# Altium schematic symbol library kmilo17pet-LT_OpAmp_LT2000.SchLib: 1710 symbols (part 23 of 75)
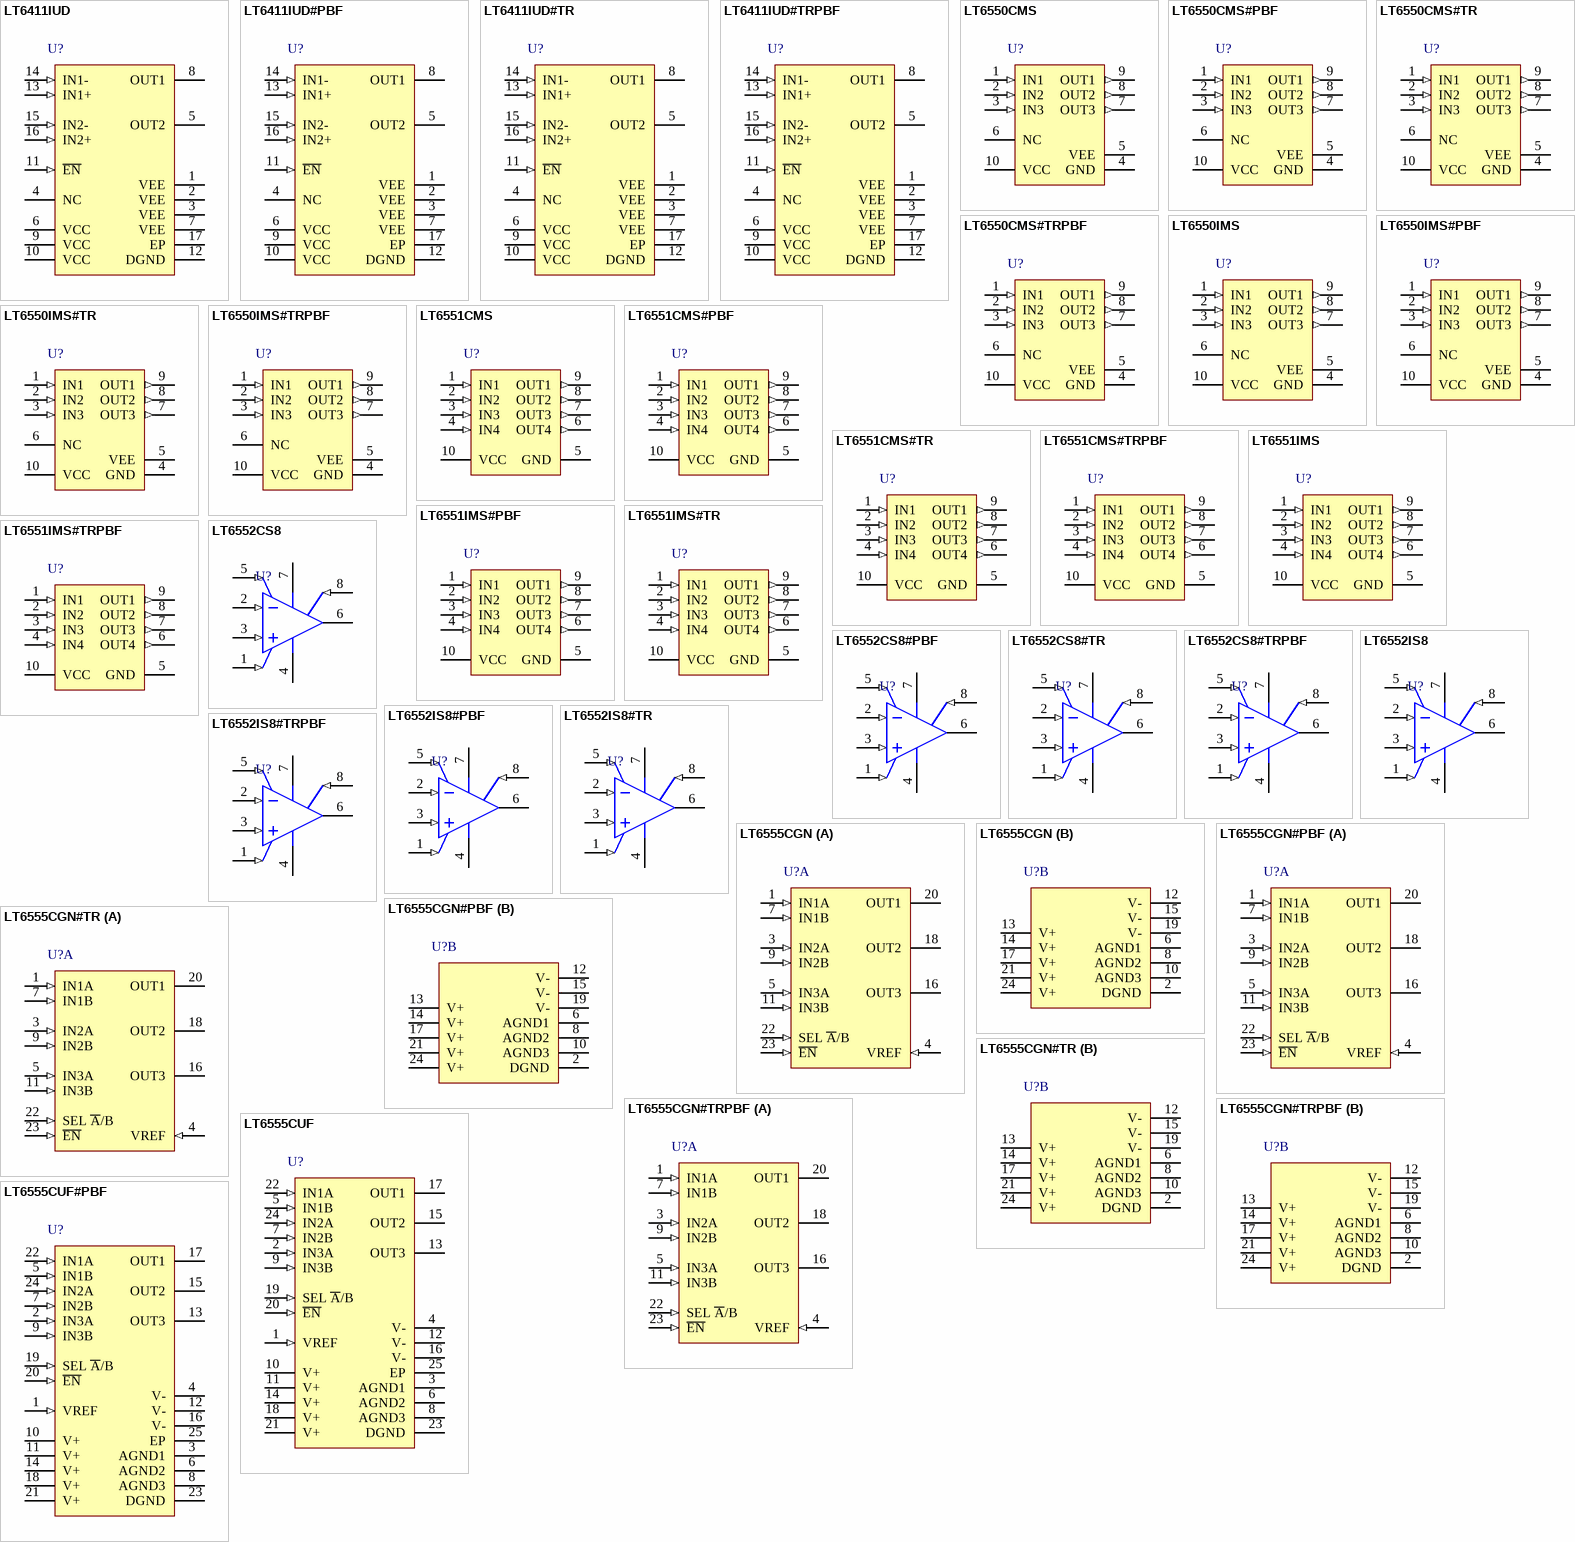
[diagram p102: symbols LT6411IUD to LT6555CUF#PBF]

## LT6551CMS#PBF
designator U?
Quad Channel, 3V RGB + Sync Driver with Av = 2, 110 MHz Typical GBW, 340 V/us Typical SR, 3 to 12.6 V, 10-Pin SOP (MS-10), Commercial, Pb-Free; Linear Technology Part Number: LT6551; Manufacturer: Linear Technology; PartNumber: LT6551CMS#PBF; Channels (#): 4; GBW (MHz) Typical: 110; Is (mA) Typical: 9.5; SR (V/us) Typical: 340; Vos (mV) Guaranteed: 35; Vos (mV) Typical: 15; Vs Max (V): 12.6; Vs Min (V): 3; DatasheetVersion: Rev. A; PackageVersion: Rev E; PackageReference: LT-MS-10; PackageDescription: 10-Lead Plastic MSOP, Body 3 x 3 mm, Pitch 0.5 mm; Supplier 1: Digi-Key; Supplier Part Number 1: LT6551CMS#PBF-ND; Supplier 2: Newark; Supplier Part Number 2: 57M9448; RoHS: Pb-Free; Type: VIDEO; Mounting Technology: Surface Mount; ComponentLink1Description: Manufacturer URL; ComponentLink1URL: http://www.linear.com/; ComponentLink2Description: Datasheet; ComponentLink2URL: http://cds.linear.com/docs/en/datasheet/65501fa.pdf; ComponentLink3Description: Package Specification; ComponentLink3URL: http://cds.linear.com/docs/en/packaging/MSOP_10_05-08-1661.pdf
footprint LT-MS-10_N (SOP, 10-Leads, Body 3x3mm, Pitch 0.50mm, IPC Medium Density)
footprint LT-MS-10_L (SOP, 10-Leads, Body 3x3mm, Pitch 0.50mm, IPC High Density)
footprint LT-MS-10_M (SOP, 10-Leads, Body 3x3mm, Pitch 0.50mm, IPC Low Density)
pins: 1 IN1 (in), 2 IN2 (in), 3 IN3 (in), 4 IN4 (in), 5 GND (power), 6 OUT4 (out), 7 OUT3 (out), 8 OUT2 (out), 9 OUT1 (out), 10 VCC (power)

## LT6551CMS#TR
designator U?
Quad Channel, 3V RGB + Sync Driver with Av = 2, 110 MHz Typical GBW, 340 V/us Typical SR, 3 to 12.6 V, 10-Pin SOP (MS-10), Commercial, Reel; Linear Technology Part Number: LT6551; Manufacturer: Linear Technology; PartNumber: LT6551CMS#TR; Channels (#): 4; GBW (MHz) Typical: 110; Is (mA) Typical: 9.5; SR (V/us) Typical: 340; Vos (mV) Guaranteed: 35; Vos (mV) Typical: 15; Vs Max (V): 12.6; Vs Min (V): 3; DatasheetVersion: Rev. A; PackageVersion: Rev E; PackageReference: LT-MS-10; PackageDescription: 10-Lead Plastic MSOP, Body 3 x 3 mm, Pitch 0.5 mm; Supplier 1: Digi-Key; Supplier Part Number 1: LT6551CMS#TR-ND; Packing: Reel; Type: VIDEO; Mounting Technology: Surface Mount; ComponentLink1Description: Manufacturer URL; ComponentLink1URL: http://www.linear.com/; ComponentLink2Description: Datasheet; ComponentLink2URL: http://cds.linear.com/docs/en/datasheet/65501fa.pdf; ComponentLink3Description: Package Specification; ComponentLink3URL: http://cds.linear.com/docs/en/packaging/MSOP_10_05-08-1661.pdf
footprint LT-MS-10_N (SOP, 10-Leads, Body 3x3mm, Pitch 0.50mm, IPC Medium Density)
footprint LT-MS-10_L (SOP, 10-Leads, Body 3x3mm, Pitch 0.50mm, IPC High Density)
footprint LT-MS-10_M (SOP, 10-Leads, Body 3x3mm, Pitch 0.50mm, IPC Low Density)
pins: 1 IN1 (in), 2 IN2 (in), 3 IN3 (in), 4 IN4 (in), 5 GND (power), 6 OUT4 (out), 7 OUT3 (out), 8 OUT2 (out), 9 OUT1 (out), 10 VCC (power)

## LT6551CMS#TRPBF
designator U?
Quad Channel, 3V RGB + Sync Driver with Av = 2, 110 MHz Typical GBW, 340 V/us Typical SR, 3 to 12.6 V, 10-Pin SOP (MS-10), Commercial, Pb-Free, Reel; Linear Technology Part Number: LT6551; Manufacturer: Linear Technology; PartNumber: LT6551CMS#TRPBF; Channels (#): 4; GBW (MHz) Typical: 110; Is (mA) Typical: 9.5; SR (V/us) Typical: 340; Vos (mV) Guaranteed: 35; Vos (mV) Typical: 15; Vs Max (V): 12.6; Vs Min (V): 3; DatasheetVersion: Rev. A; PackageVersion: Rev E; PackageReference: LT-MS-10; PackageDescription: 10-Lead Plastic MSOP, Body 3 x 3 mm, Pitch 0.5 mm; Supplier 1: Digi-Key; Supplier Part Number 1: LT6551CMS#TRPBF-ND; Packing: Reel; RoHS: Pb-Free; Type: VIDEO; Mounting Technology: Surface Mount; ComponentLink1Description: Manufacturer URL; ComponentLink1URL: http://www.linear.com/; ComponentLink2Description: Datasheet; ComponentLink2URL: http://cds.linear.com/docs/en/datasheet/65501fa.pdf; ComponentLink3Description: Package Specification; ComponentLink3URL: http://cds.linear.com/docs/en/packaging/MSOP_10_05-08-1661.pdf
footprint LT-MS-10_N (SOP, 10-Leads, Body 3x3mm, Pitch 0.50mm, IPC Medium Density)
footprint LT-MS-10_L (SOP, 10-Leads, Body 3x3mm, Pitch 0.50mm, IPC High Density)
footprint LT-MS-10_M (SOP, 10-Leads, Body 3x3mm, Pitch 0.50mm, IPC Low Density)
pins: 1 IN1 (in), 2 IN2 (in), 3 IN3 (in), 4 IN4 (in), 5 GND (power), 6 OUT4 (out), 7 OUT3 (out), 8 OUT2 (out), 9 OUT1 (out), 10 VCC (power)

## LT6551IMS
designator U?
Quad Channel, 3V RGB + Sync Driver with Av = 2, 110 MHz Typical GBW, 340 V/us Typical SR, 3 to 12.6 V, 10-Pin SOP (MS-10), Industrial; Linear Technology Part Number: LT6551; Manufacturer: Linear Technology; PartNumber: LT6551IMS; Channels (#): 4; GBW (MHz) Typical: 110; Is (mA) Typical: 9.5; SR (V/us) Typical: 340; Vos (mV) Guaranteed: 35; Vos (mV) Typical: 15; Vs Max (V): 12.6; Vs Min (V): 3; DatasheetVersion: Rev. A; PackageVersion: Rev E; PackageReference: LT-MS-10; PackageDescription: 10-Lead Plastic MSOP, Body 3 x 3 mm, Pitch 0.5 mm; Supplier 1: Digi-Key; Supplier Part Number 1: LT6551IMS-ND; Type: VIDEO; Mounting Technology: Surface Mount; ComponentLink1Description: Manufacturer URL; ComponentLink1URL: http://www.linear.com/; ComponentLink2Description: Datasheet; ComponentLink2URL: http://cds.linear.com/docs/en/datasheet/65501fa.pdf; ComponentLink3Description: Package Specification; ComponentLink3URL: http://cds.linear.com/docs/en/packaging/MSOP_10_05-08-1661.pdf
footprint LT-MS-10_N (SOP, 10-Leads, Body 3x3mm, Pitch 0.50mm, IPC Medium Density)
footprint LT-MS-10_L (SOP, 10-Leads, Body 3x3mm, Pitch 0.50mm, IPC High Density)
footprint LT-MS-10_M (SOP, 10-Leads, Body 3x3mm, Pitch 0.50mm, IPC Low Density)
pins: 1 IN1 (in), 2 IN2 (in), 3 IN3 (in), 4 IN4 (in), 5 GND (power), 6 OUT4 (out), 7 OUT3 (out), 8 OUT2 (out), 9 OUT1 (out), 10 VCC (power)

## LT6551IMS#PBF
designator U?
Quad Channel, 3V RGB + Sync Driver with Av = 2, 110 MHz Typical GBW, 340 V/us Typical SR, 3 to 12.6 V, 10-Pin SOP (MS-10), Industrial, Pb-Free; Linear Technology Part Number: LT6551; Manufacturer: Linear Technology; PartNumber: LT6551IMS#PBF; Channels (#): 4; GBW (MHz) Typical: 110; Is (mA) Typical: 9.5; SR (V/us) Typical: 340; Vos (mV) Guaranteed: 35; Vos (mV) Typical: 15; Vs Max (V): 12.6; Vs Min (V): 3; DatasheetVersion: Rev. A; PackageVersion: Rev E; PackageReference: LT-MS-10; PackageDescription: 10-Lead Plastic MSOP, Body 3 x 3 mm, Pitch 0.5 mm; Supplier 1: Digi-Key; Supplier Part Number 1: LT6551IMS#PBF-ND; Supplier 2: Farnell; Supplier Part Number 2: 2294772; Supplier 3: Newark; Supplier Part Number 3: 57M9452; RoHS: Pb-Free; Type: VIDEO; Mounting Technology: Surface Mount; ComponentLink1Description: Manufacturer URL; ComponentLink1URL: http://www.linear.com/; ComponentLink2Description: Datasheet; ComponentLink2URL: http://cds.linear.com/docs/en/datasheet/65501fa.pdf; ComponentLink3Description: Package Specification; ComponentLink3URL: http://cds.linear.com/docs/en/packaging/MSOP_10_05-08-1661.pdf
footprint LT-MS-10_N (SOP, 10-Leads, Body 3x3mm, Pitch 0.50mm, IPC Medium Density)
footprint LT-MS-10_L (SOP, 10-Leads, Body 3x3mm, Pitch 0.50mm, IPC High Density)
footprint LT-MS-10_M (SOP, 10-Leads, Body 3x3mm, Pitch 0.50mm, IPC Low Density)
pins: 1 IN1 (in), 2 IN2 (in), 3 IN3 (in), 4 IN4 (in), 5 GND (power), 6 OUT4 (out), 7 OUT3 (out), 8 OUT2 (out), 9 OUT1 (out), 10 VCC (power)

## LT6551IMS#TR
designator U?
Quad Channel, 3V RGB + Sync Driver with Av = 2, 110 MHz Typical GBW, 340 V/us Typical SR, 3 to 12.6 V, 10-Pin SOP (MS-10), Industrial, Reel; Linear Technology Part Number: LT6551; Manufacturer: Linear Technology; PartNumber: LT6551IMS#TR; Channels (#): 4; GBW (MHz) Typical: 110; Is (mA) Typical: 9.5; SR (V/us) Typical: 340; Vos (mV) Guaranteed: 35; Vos (mV) Typical: 15; Vs Max (V): 12.6; Vs Min (V): 3; DatasheetVersion: Rev. A; PackageVersion: Rev E; PackageReference: LT-MS-10; PackageDescription: 10-Lead Plastic MSOP, Body 3 x 3 mm, Pitch 0.5 mm; Supplier 1: Digi-Key; Supplier Part Number 1: LT6551IMS#TR-ND; Packing: Reel; Type: VIDEO; Mounting Technology: Surface Mount; ComponentLink1Description: Manufacturer URL; ComponentLink1URL: http://www.linear.com/; ComponentLink2Description: Datasheet; ComponentLink2URL: http://cds.linear.com/docs/en/datasheet/65501fa.pdf; ComponentLink3Description: Package Specification; ComponentLink3URL: http://cds.linear.com/docs/en/packaging/MSOP_10_05-08-1661.pdf
footprint LT-MS-10_N (SOP, 10-Leads, Body 3x3mm, Pitch 0.50mm, IPC Medium Density)
footprint LT-MS-10_L (SOP, 10-Leads, Body 3x3mm, Pitch 0.50mm, IPC High Density)
footprint LT-MS-10_M (SOP, 10-Leads, Body 3x3mm, Pitch 0.50mm, IPC Low Density)
pins: 1 IN1 (in), 2 IN2 (in), 3 IN3 (in), 4 IN4 (in), 5 GND (power), 6 OUT4 (out), 7 OUT3 (out), 8 OUT2 (out), 9 OUT1 (out), 10 VCC (power)

## LT6551IMS#TRPBF
designator U?
Quad Channel, 3V RGB + Sync Driver with Av = 2, 110 MHz Typical GBW, 340 V/us Typical SR, 3 to 12.6 V, 10-Pin SOP (MS-10), Industrial, Pb-Free, Reel; Linear Technology Part Number: LT6551; Manufacturer: Linear Technology; PartNumber: LT6551IMS#TRPBF; Channels (#): 4; GBW (MHz) Typical: 110; Is (mA) Typical: 9.5; SR (V/us) Typical: 340; Vos (mV) Guaranteed: 35; Vos (mV) Typical: 15; Vs Max (V): 12.6; Vs Min (V): 3; DatasheetVersion: Rev. A; PackageVersion: Rev E; PackageReference: LT-MS-10; PackageDescription: 10-Lead Plastic MSOP, Body 3 x 3 mm, Pitch 0.5 mm; Supplier 1: Digi-Key; Supplier Part Number 1: LT6551IMS#TRPBF-ND; Packing: Reel; RoHS: Pb-Free; Type: VIDEO; Mounting Technology: Surface Mount; ComponentLink1Description: Manufacturer URL; ComponentLink1URL: http://www.linear.com/; ComponentLink2Description: Datasheet; ComponentLink2URL: http://cds.linear.com/docs/en/datasheet/65501fa.pdf; ComponentLink3Description: Package Specification; ComponentLink3URL: http://cds.linear.com/docs/en/packaging/MSOP_10_05-08-1661.pdf
footprint LT-MS-10_N (SOP, 10-Leads, Body 3x3mm, Pitch 0.50mm, IPC Medium Density)
footprint LT-MS-10_L (SOP, 10-Leads, Body 3x3mm, Pitch 0.50mm, IPC High Density)
footprint LT-MS-10_M (SOP, 10-Leads, Body 3x3mm, Pitch 0.50mm, IPC Low Density)
pins: 1 IN1 (in), 2 IN2 (in), 3 IN3 (in), 4 IN4 (in), 5 GND (power), 6 OUT4 (out), 7 OUT3 (out), 8 OUT2 (out), 9 OUT1 (out), 10 VCC (power)

## LT6552CS8
designator U?
Single Channel, Low Power Video Difference Amplifier, 75 MHz Typical GBW, 600 V/us Typical SR, 3 to 12.6 V, 8-Pin SOIC (S8-8), Commercial; Linear Technology Part Number: LT6552; Manufacturer: Linear Technology; PartNumber: LT6552CS8; Channels (#): 1; GBW (MHz) Typical: 75; Is (mA) Typical: 12.5; SR (V/us) Typical: 600; Vos (mV) Guaranteed: 20; Vos (mV) Typical: 5; Vs Max (V): 12.6; Vs Min (V): 3; PackageVersion: Rev G; PackageReference: LT-S8-8; PackageDescription: 8-Pin Plastic Small Outline, Body 4.9 x 3.9 mm, Pitch 1.27 mm; Supplier 1: Digi-Key; Supplier Part Number 1: LT6552CS8-ND; Type: VFB; Mounting Technology: Surface Mount; ComponentLink1Description: Manufacturer URL; ComponentLink1URL: http://www.linear.com/; ComponentLink2Description: Datasheet; ComponentLink2URL: http://cds.linear.com/docs/en/datasheet/6552f.pdf; ComponentLink3Description: Package Specification; ComponentLink3URL: http://cds.linear.com/docs/en/packaging/05081610_G_SO8.pdf
footprint LT-S8-8_N (SOIC, 8-Leads, Body 4.9x3.9mm, Pitch 1.27mm, IPC Medium Density)
footprint LT-S8-8_L (SOIC, 8-Leads, Body 4.9x3.9mm, Pitch 1.27mm, IPC High Density)
footprint LT-S8-8_M (SOIC, 8-Leads, Body 4.9x3.9mm, Pitch 1.27mm, IPC Low Density)
pins: 1 REF (in), 2 -IN (in), 3 +IN (in), 4 V- (power), 5 ~{SHDN} (in), 6 OUT (hiz), 7 V+ (power), 8 FB (in)

## LT6552CS8#PBF
designator U?
Single Channel, Low Power Video Difference Amplifier, 75 MHz Typical GBW, 600 V/us Typical SR, 3 to 12.6 V, 8-Pin SOIC (S8-8), Commercial, Pb-Free; Linear Technology Part Number: LT6552; Manufacturer: Linear Technology; PartNumber: LT6552CS8#PBF; Channels (#): 1; GBW (MHz) Typical: 75; Is (mA) Typical: 12.5; SR (V/us) Typical: 600; Vos (mV) Guaranteed: 20; Vos (mV) Typical: 5; Vs Max (V): 12.6; Vs Min (V): 3; PackageVersion: Rev G; PackageReference: LT-S8-8; PackageDescription: 8-Pin Plastic Small Outline, Body 4.9 x 3.9 mm, Pitch 1.27 mm; Supplier 1: Digi-Key; Supplier Part Number 1: LT6552CS8#PBF-ND; Supplier 2: Farnell; Supplier Part Number 2: 1330770; Supplier 3: Newark; Supplier Part Number 3: 57M9460; RoHS: Pb-Free; Type: VFB; Mounting Technology: Surface Mount; ComponentLink1Description: Manufacturer URL; ComponentLink1URL: http://www.linear.com/; ComponentLink2Description: Datasheet; ComponentLink2URL: http://cds.linear.com/docs/en/datasheet/6552f.pdf; ComponentLink3Description: Package Specification; ComponentLink3URL: http://cds.linear.com/docs/en/packaging/05081610_G_SO8.pdf
footprint LT-S8-8_N (SOIC, 8-Leads, Body 4.9x3.9mm, Pitch 1.27mm, IPC Medium Density)
footprint LT-S8-8_L (SOIC, 8-Leads, Body 4.9x3.9mm, Pitch 1.27mm, IPC High Density)
footprint LT-S8-8_M (SOIC, 8-Leads, Body 4.9x3.9mm, Pitch 1.27mm, IPC Low Density)
pins: 1 REF (in), 2 -IN (in), 3 +IN (in), 4 V- (power), 5 ~{SHDN} (in), 6 OUT (hiz), 7 V+ (power), 8 FB (in)

## LT6552CS8#TR
designator U?
Single Channel, Low Power Video Difference Amplifier, 75 MHz Typical GBW, 600 V/us Typical SR, 3 to 12.6 V, 8-Pin SOIC (S8-8), Commercial, Reel; Linear Technology Part Number: LT6552; Manufacturer: Linear Technology; PartNumber: LT6552CS8#TR; Channels (#): 1; GBW (MHz) Typical: 75; Is (mA) Typical: 12.5; SR (V/us) Typical: 600; Vos (mV) Guaranteed: 20; Vos (mV) Typical: 5; Vs Max (V): 12.6; Vs Min (V): 3; PackageVersion: Rev G; PackageReference: LT-S8-8; PackageDescription: 8-Pin Plastic Small Outline, Body 4.9 x 3.9 mm, Pitch 1.27 mm; Supplier 1: Digi-Key; Supplier Part Number 1: LT6552CS8#TR-ND; Packing: Reel; Type: VFB; Mounting Technology: Surface Mount; ComponentLink1Description: Manufacturer URL; ComponentLink1URL: http://www.linear.com/; ComponentLink2Description: Datasheet; ComponentLink2URL: http://cds.linear.com/docs/en/datasheet/6552f.pdf; ComponentLink3Description: Package Specification; ComponentLink3URL: http://cds.linear.com/docs/en/packaging/05081610_G_SO8.pdf
footprint LT-S8-8_N (SOIC, 8-Leads, Body 4.9x3.9mm, Pitch 1.27mm, IPC Medium Density)
footprint LT-S8-8_L (SOIC, 8-Leads, Body 4.9x3.9mm, Pitch 1.27mm, IPC High Density)
footprint LT-S8-8_M (SOIC, 8-Leads, Body 4.9x3.9mm, Pitch 1.27mm, IPC Low Density)
pins: 1 REF (in), 2 -IN (in), 3 +IN (in), 4 V- (power), 5 ~{SHDN} (in), 6 OUT (hiz), 7 V+ (power), 8 FB (in)

## LT6552CS8#TRPBF
designator U?
Single Channel, Low Power Video Difference Amplifier, 75 MHz Typical GBW, 600 V/us Typical SR, 3 to 12.6 V, 8-Pin SOIC (S8-8), Commercial, Pb-Free, Reel; Linear Technology Part Number: LT6552; Manufacturer: Linear Technology; PartNumber: LT6552CS8#TRPBF; Channels (#): 1; GBW (MHz) Typical: 75; Is (mA) Typical: 12.5; SR (V/us) Typical: 600; Vos (mV) Guaranteed: 20; Vos (mV) Typical: 5; Vs Max (V): 12.6; Vs Min (V): 3; PackageVersion: Rev G; PackageReference: LT-S8-8; PackageDescription: 8-Pin Plastic Small Outline, Body 4.9 x 3.9 mm, Pitch 1.27 mm; Supplier 1: Digi-Key; Supplier Part Number 1: LT6552CS8#TRPBF-ND; Packing: Reel; RoHS: Pb-Free; Type: VFB; Mounting Technology: Surface Mount; ComponentLink1Description: Manufacturer URL; ComponentLink1URL: http://www.linear.com/; ComponentLink2Description: Datasheet; ComponentLink2URL: http://cds.linear.com/docs/en/datasheet/6552f.pdf; ComponentLink3Description: Package Specification; ComponentLink3URL: http://cds.linear.com/docs/en/packaging/05081610_G_SO8.pdf
footprint LT-S8-8_N (SOIC, 8-Leads, Body 4.9x3.9mm, Pitch 1.27mm, IPC Medium Density)
footprint LT-S8-8_L (SOIC, 8-Leads, Body 4.9x3.9mm, Pitch 1.27mm, IPC High Density)
footprint LT-S8-8_M (SOIC, 8-Leads, Body 4.9x3.9mm, Pitch 1.27mm, IPC Low Density)
pins: 1 REF (in), 2 -IN (in), 3 +IN (in), 4 V- (power), 5 ~{SHDN} (in), 6 OUT (hiz), 7 V+ (power), 8 FB (in)

## LT6552IS8
designator U?
Single Channel, Low Power Video Difference Amplifier, 75 MHz Typical GBW, 600 V/us Typical SR, 3 to 12.6 V, 8-Pin SOIC (S8-8), Industrial; Linear Technology Part Number: LT6552; Manufacturer: Linear Technology; PartNumber: LT6552IS8; Channels (#): 1; GBW (MHz) Typical: 75; Is (mA) Typical: 12.5; SR (V/us) Typical: 600; Vos (mV) Guaranteed: 20; Vos (mV) Typical: 5; Vs Max (V): 12.6; Vs Min (V): 3; PackageVersion: Rev G; PackageReference: LT-S8-8; PackageDescription: 8-Pin Plastic Small Outline, Body 4.9 x 3.9 mm, Pitch 1.27 mm; Supplier 1: Digi-Key; Supplier Part Number 1: LT6552IS8-ND; Supplier 2: Newark; Supplier Part Number 2: 57M9467; Type: VFB; Mounting Technology: Surface Mount; ComponentLink1Description: Manufacturer URL; ComponentLink1URL: http://www.linear.com/; ComponentLink2Description: Datasheet; ComponentLink2URL: http://cds.linear.com/docs/en/datasheet/6552f.pdf; ComponentLink3Description: Package Specification; ComponentLink3URL: http://cds.linear.com/docs/en/packaging/05081610_G_SO8.pdf
footprint LT-S8-8_N (SOIC, 8-Leads, Body 4.9x3.9mm, Pitch 1.27mm, IPC Medium Density)
footprint LT-S8-8_L (SOIC, 8-Leads, Body 4.9x3.9mm, Pitch 1.27mm, IPC High Density)
footprint LT-S8-8_M (SOIC, 8-Leads, Body 4.9x3.9mm, Pitch 1.27mm, IPC Low Density)
pins: 1 REF (in), 2 -IN (in), 3 +IN (in), 4 V- (power), 5 ~{SHDN} (in), 6 OUT (hiz), 7 V+ (power), 8 FB (in)

## LT6552IS8#PBF
designator U?
Single Channel, Low Power Video Difference Amplifier, 75 MHz Typical GBW, 600 V/us Typical SR, 3 to 12.6 V, 8-Pin SOIC (S8-8), Industrial, Pb-Free; Linear Technology Part Number: LT6552; Manufacturer: Linear Technology; PartNumber: LT6552IS8#PBF; Channels (#): 1; GBW (MHz) Typical: 75; Is (mA) Typical: 12.5; SR (V/us) Typical: 600; Vos (mV) Guaranteed: 20; Vos (mV) Typical: 5; Vs Max (V): 12.6; Vs Min (V): 3; PackageVersion: Rev G; PackageReference: LT-S8-8; PackageDescription: 8-Pin Plastic Small Outline, Body 4.9 x 3.9 mm, Pitch 1.27 mm; Supplier 1: Digi-Key; Supplier Part Number 1: LT6552IS8#PBF-ND; Supplier 2: Newark; Supplier Part Number 2: 57M9468; RoHS: Pb-Free; Type: VFB; Mounting Technology: Surface Mount; ComponentLink1Description: Manufacturer URL; ComponentLink1URL: http://www.linear.com/; ComponentLink2Description: Datasheet; ComponentLink2URL: http://cds.linear.com/docs/en/datasheet/6552f.pdf; ComponentLink3Description: Package Specification; ComponentLink3URL: http://cds.linear.com/docs/en/packaging/05081610_G_SO8.pdf
footprint LT-S8-8_N (SOIC, 8-Leads, Body 4.9x3.9mm, Pitch 1.27mm, IPC Medium Density)
footprint LT-S8-8_L (SOIC, 8-Leads, Body 4.9x3.9mm, Pitch 1.27mm, IPC High Density)
footprint LT-S8-8_M (SOIC, 8-Leads, Body 4.9x3.9mm, Pitch 1.27mm, IPC Low Density)
pins: 1 REF (in), 2 -IN (in), 3 +IN (in), 4 V- (power), 5 ~{SHDN} (in), 6 OUT (hiz), 7 V+ (power), 8 FB (in)

## LT6552IS8#TR
designator U?
Single Channel, Low Power Video Difference Amplifier, 75 MHz Typical GBW, 600 V/us Typical SR, 3 to 12.6 V, 8-Pin SOIC (S8-8), Industrial, Reel; Linear Technology Part Number: LT6552; Manufacturer: Linear Technology; PartNumber: LT6552IS8#TR; Channels (#): 1; GBW (MHz) Typical: 75; Is (mA) Typical: 12.5; SR (V/us) Typical: 600; Vos (mV) Guaranteed: 20; Vos (mV) Typical: 5; Vs Max (V): 12.6; Vs Min (V): 3; PackageVersion: Rev G; PackageReference: LT-S8-8; PackageDescription: 8-Pin Plastic Small Outline, Body 4.9 x 3.9 mm, Pitch 1.27 mm; Supplier 1: Digi-Key; Supplier Part Number 1: LT6552IS8#TR-ND; Packing: Reel; Type: VFB; Mounting Technology: Surface Mount; ComponentLink1Description: Manufacturer URL; ComponentLink1URL: http://www.linear.com/; ComponentLink2Description: Datasheet; ComponentLink2URL: http://cds.linear.com/docs/en/datasheet/6552f.pdf; ComponentLink3Description: Package Specification; ComponentLink3URL: http://cds.linear.com/docs/en/packaging/05081610_G_SO8.pdf
footprint LT-S8-8_N (SOIC, 8-Leads, Body 4.9x3.9mm, Pitch 1.27mm, IPC Medium Density)
footprint LT-S8-8_L (SOIC, 8-Leads, Body 4.9x3.9mm, Pitch 1.27mm, IPC High Density)
footprint LT-S8-8_M (SOIC, 8-Leads, Body 4.9x3.9mm, Pitch 1.27mm, IPC Low Density)
pins: 1 REF (in), 2 -IN (in), 3 +IN (in), 4 V- (power), 5 ~{SHDN} (in), 6 OUT (hiz), 7 V+ (power), 8 FB (in)

## LT6552IS8#TRPBF
designator U?
Single Channel, Low Power Video Difference Amplifier, 75 MHz Typical GBW, 600 V/us Typical SR, 3 to 12.6 V, 8-Pin SOIC (S8-8), Industrial, Pb-Free, Reel; Linear Technology Part Number: LT6552; Manufacturer: Linear Technology; PartNumber: LT6552IS8#TRPBF; Channels (#): 1; GBW (MHz) Typical: 75; Is (mA) Typical: 12.5; SR (V/us) Typical: 600; Vos (mV) Guaranteed: 20; Vos (mV) Typical: 5; Vs Max (V): 12.6; Vs Min (V): 3; PackageVersion: Rev G; PackageReference: LT-S8-8; PackageDescription: 8-Pin Plastic Small Outline, Body 4.9 x 3.9 mm, Pitch 1.27 mm; Supplier 1: Digi-Key; Supplier Part Number 1: LT6552IS8#TRPBF-ND; Supplier 2: Newark; Supplier Part Number 2: 57M9470; Packing: Reel; RoHS: Pb-Free; Type: VFB; Mounting Technology: Surface Mount; ComponentLink1Description: Manufacturer URL; ComponentLink1URL: http://www.linear.com/; ComponentLink2Description: Datasheet; ComponentLink2URL: http://cds.linear.com/docs/en/datasheet/6552f.pdf; ComponentLink3Description: Package Specification; ComponentLink3URL: http://cds.linear.com/docs/en/packaging/05081610_G_SO8.pdf
footprint LT-S8-8_N (SOIC, 8-Leads, Body 4.9x3.9mm, Pitch 1.27mm, IPC Medium Density)
footprint LT-S8-8_L (SOIC, 8-Leads, Body 4.9x3.9mm, Pitch 1.27mm, IPC High Density)
footprint LT-S8-8_M (SOIC, 8-Leads, Body 4.9x3.9mm, Pitch 1.27mm, IPC Low Density)
pins: 1 REF (in), 2 -IN (in), 3 +IN (in), 4 V- (power), 5 ~{SHDN} (in), 6 OUT (hiz), 7 V+ (power), 8 FB (in)

## LT6555CGN
designator U?
3 Channel, 2:1 Video Multiplexer, Av = 2, 650 MHz Typical GBW, 2200 V/us Typical SR, 4.5 to 12.6 V, 24-Pin SOP (GN24), Commercial; Linear Technology Part Number: LT6555; Manufacturer: Linear Technology; PartNumber: LT6555CGN; Channels (#): 3; GBW (MHz) Typical: 650; Is (mA) Typical: 9; SR (V/us) Typical: 2200; Vos (mV) Typical: 5; Vs Max (V): 12.6; Vs Min (V): 4.5; PackageVersion: Rev B; PackageReference: LT-GN-24; PackageDescription: 24-Lead Plastic SSOP , Body 8.5 x 3.9 mm, Pitch 0.635 mm; Supplier 1: Newark; Supplier Part Number 1: 57M9487; Type: VIDEO; Mounting Technology: Surface Mount; ComponentLink1Description: Manufacturer URL; ComponentLink1URL: http://www.linear.com/; ComponentLink2Description: Datasheet; ComponentLink2URL: http://cds.linear.com/docs/en/datasheet/6555f.pdf; ComponentLink3Description: Package Specification; ComponentLink3URL: http://cds.linear.com/docs/en/packaging/05081641_B_GN24.pdf
footprint LT-GN-24_N (SOP, 24-Leads, Body 8.65x3.90mm, Pitch 0.635mm, , IPC Medium Density)
footprint LT-GN-24_L (SOP, 24-Leads, Body 8.65x3.90mm, Pitch 0.635mm, IPC High Density)
footprint LT-GN-24_M (SOP, 24-Leads, Body 8.65x3.90mm, Pitch 0.635mm, IPC Low Density)
part A pins: 1 IN1A (in) "Channel 1 Input A. This pin has a nominal impedance of 400k ohm and does not have any internal termination resistor.", 3 IN2A (in) "Channel 2 Input A. This pin has a nominal impedance of 400k ohm and does not have any internal termination resistor.", 4 VREF (in) "Voltage Reference for Input Clamping. This is the tap to an internal voltage divider that defines midsupply. It is normally connected to ground in dual supply, DC coupled applications.", 5 IN3A (in) "Channel 3 Input A. This pin has a nominal impedance of 400k ohm and does not have any internal termination resistor.", 7 IN1B (in) "Channel 1 Input B. This pin has a nominal impedance of 400k ohm and does not have any internal termination resistor.", 9 IN2B (in) "Channel 2 Input B. This pin has a nominal impedance of 400k ohm and does not have any internal termination resistor.", 11 IN3B (in) "Channel 3 Input B. This pin has a nominal impedance of 400k ohm and does not have any internal termination resistor.", 16 OUT3 (hiz) "Channel 3 Output. It is twice the selected channel 3 input and performs optimally with a 150ohm load (a double terminated 75ohm cable).", 18 OUT2 (hiz) "Channel 2 Output. It is twice the selected channel 2 input and performs optimally with a 150ohm load (a double terminated 75ohm cable).", 20 OUT1 (hiz) "Channel 1 Output. It is twice the selected channel 1 input and performs optimally with a 150ohm load (a double terminated 75ohm cable).", 22 SEL ~{A}/B (in) "Select Pin. This high impedance pin selects which set of inputs are sent to the output pins. When the pin is pulled low, the A inputs are selected. When the pin is pulled high, the B inputs are selected.", 23 ~{EN} (in) "Enable Control Pin. An internal pull-up resistor of 46k defines the pin’s impedance and will turn the part off if the pin is unconnected. When the pin is pulled low, the amplifiers are enabled."
part B pins: 2 DGND (power) "Digital Ground Reference for Enable Pin. This pin is normally connected to ground.", 6 AGND1 (power) "Analog Ground for the 360ohm Gain Resistor of Channel 1.", 8 AGND2 (power) "Analog Ground for the 360ohm Gain Resistor of Channel 2.", 10 AGND3 (power) "Analog Ground for the 360ohm Gain Resistor of Channel 3.", 12 V- (power) "Negative Supply Voltage. V- pins are not internally connected to each other and must all be connected externally. Proper supply bypassing is necessary for best performance. See the Applications Information section.", 13 V+ (power) "Positive Supply Voltage. V+ pins are not internally connected to each other and must all be connected externally. Proper supply bypassing is necessary for best performance. See the Applications Information section.", 14 V+ (power) "Positive Supply Voltage. V+ pins are not internally connected to each other and must all be connected externally. Proper supply bypassing is necessary for best performance. See the Applications Information section.", 15 V- (power) "Negative Supply Voltage for Channel 3 Output Stage. V- pins are not internally connected to each other and must all be connected externally. Proper supply bypassing is necessary for best performance. See the Applications (See Datasheet)", 17 V+ (power) "Positive Supply Voltage for Channels 2 and 3 Output Stages. V+ pins are not internally connected to each other and must all be connected externally. Proper supply bypassing is necessary for best performance. See the (See Datasheet)", 19 V- (power) "Negative Supply Voltage for Channels 1 and 2 Output Stages. V- pins are not internally connected to each other and must all be connected externally. Proper supply bypassing is necessary for best performance. See the (See Datasheet)", 21 V+ (power) "Positive Supply Voltage for Channel 1 Output Stage. V+ pins are not internally connected to each other and must all be connected externally. Proper supply bypassing is necessary for best performance. See the Applications (See Datasheet)", 24 V+ (power) "Positive Supply Voltage. V+ pins are not internally connected to each other and must all be connected externally. Proper supply bypassing is necessary for best performance. See the Applications Information section."

## LT6555CGN#PBF
designator U?
3 Channel, 2:1 Video Multiplexer, Av = 2, 650 MHz Typical GBW, 2200 V/us Typical SR, 4.5 to 12.6 V, 24-Pin SOP (GN24), Commercial, Pb-Free; Linear Technology Part Number: LT6555; Manufacturer: Linear Technology; PartNumber: LT6555CGN#PBF; Channels (#): 3; GBW (MHz) Typical: 650; Is (mA) Typical: 9; SR (V/us) Typical: 2200; Vos (mV) Typical: 5; Vs Max (V): 12.6; Vs Min (V): 4.5; PackageVersion: Rev B; PackageReference: LT-GN-24; PackageDescription: 24-Lead Plastic SSOP , Body 8.5 x 3.9 mm, Pitch 0.635 mm; Supplier 1: Digi-Key; Supplier Part Number 1: LT6555CGN#PBF-ND; Supplier 2: Farnell; Supplier Part Number 2: 1330773; Supplier 3: Newark; Supplier Part Number 3: 57M9488; RoHS: Pb-Free; Type: VIDEO; Mounting Technology: Surface Mount; ComponentLink1Description: Manufacturer URL; ComponentLink1URL: http://www.linear.com/; ComponentLink2Description: Datasheet; ComponentLink2URL: http://cds.linear.com/docs/en/datasheet/6555f.pdf; ComponentLink3Description: Package Specification; ComponentLink3URL: http://cds.linear.com/docs/en/packaging/05081641_B_GN24.pdf
footprint LT-GN-24_N (SOP, 24-Leads, Body 8.65x3.90mm, Pitch 0.635mm, , IPC Medium Density)
footprint LT-GN-24_L (SOP, 24-Leads, Body 8.65x3.90mm, Pitch 0.635mm, IPC High Density)
footprint LT-GN-24_M (SOP, 24-Leads, Body 8.65x3.90mm, Pitch 0.635mm, IPC Low Density)
part A pins: 1 IN1A (in) "Channel 1 Input A. This pin has a nominal impedance of 400k ohm and does not have any internal termination resistor.", 3 IN2A (in) "Channel 2 Input A. This pin has a nominal impedance of 400k ohm and does not have any internal termination resistor.", 4 VREF (in) "Voltage Reference for Input Clamping. This is the tap to an internal voltage divider that defines midsupply. It is normally connected to ground in dual supply, DC coupled applications.", 5 IN3A (in) "Channel 3 Input A. This pin has a nominal impedance of 400k ohm and does not have any internal termination resistor.", 7 IN1B (in) "Channel 1 Input B. This pin has a nominal impedance of 400k ohm and does not have any internal termination resistor.", 9 IN2B (in) "Channel 2 Input B. This pin has a nominal impedance of 400k ohm and does not have any internal termination resistor.", 11 IN3B (in) "Channel 3 Input B. This pin has a nominal impedance of 400k ohm and does not have any internal termination resistor.", 16 OUT3 (hiz) "Channel 3 Output. It is twice the selected channel 3 input and performs optimally with a 150ohm load (a double terminated 75ohm cable).", 18 OUT2 (hiz) "Channel 2 Output. It is twice the selected channel 2 input and performs optimally with a 150ohm load (a double terminated 75ohm cable).", 20 OUT1 (hiz) "Channel 1 Output. It is twice the selected channel 1 input and performs optimally with a 150ohm load (a double terminated 75ohm cable).", 22 SEL ~{A}/B (in) "Select Pin. This high impedance pin selects which set of inputs are sent to the output pins. When the pin is pulled low, the A inputs are selected. When the pin is pulled high, the B inputs are selected.", 23 ~{EN} (in) "Enable Control Pin. An internal pull-up resistor of 46k defines the pin’s impedance and will turn the part off if the pin is unconnected. When the pin is pulled low, the amplifiers are enabled."
part B pins: 2 DGND (power) "Digital Ground Reference for Enable Pin. This pin is normally connected to ground.", 6 AGND1 (power) "Analog Ground for the 360ohm Gain Resistor of Channel 1.", 8 AGND2 (power) "Analog Ground for the 360ohm Gain Resistor of Channel 2.", 10 AGND3 (power) "Analog Ground for the 360ohm Gain Resistor of Channel 3.", 12 V- (power) "Negative Supply Voltage. V- pins are not internally connected to each other and must all be connected externally. Proper supply bypassing is necessary for best performance. See the Applications Information section.", 13 V+ (power) "Positive Supply Voltage. V+ pins are not internally connected to each other and must all be connected externally. Proper supply bypassing is necessary for best performance. See the Applications Information section.", 14 V+ (power) "Positive Supply Voltage. V+ pins are not internally connected to each other and must all be connected externally. Proper supply bypassing is necessary for best performance. See the Applications Information section.", 15 V- (power) "Negative Supply Voltage for Channel 3 Output Stage. V- pins are not internally connected to each other and must all be connected externally. Proper supply bypassing is necessary for best performance. See the Applications (See Datasheet)", 17 V+ (power) "Positive Supply Voltage for Channels 2 and 3 Output Stages. V+ pins are not internally connected to each other and must all be connected externally. Proper supply bypassing is necessary for best performance. See the (See Datasheet)", 19 V- (power) "Negative Supply Voltage for Channels 1 and 2 Output Stages. V- pins are not internally connected to each other and must all be connected externally. Proper supply bypassing is necessary for best performance. See the (See Datasheet)", 21 V+ (power) "Positive Supply Voltage for Channel 1 Output Stage. V+ pins are not internally connected to each other and must all be connected externally. Proper supply bypassing is necessary for best performance. See the Applications (See Datasheet)", 24 V+ (power) "Positive Supply Voltage. V+ pins are not internally connected to each other and must all be connected externally. Proper supply bypassing is necessary for best performance. See the Applications Information section."

## LT6555CGN#TR
designator U?
3 Channel, 2:1 Video Multiplexer, Av = 2, 650 MHz Typical GBW, 2200 V/us Typical SR, 4.5 to 12.6 V, 24-Pin SOP (GN24), Commercial, Reel; Linear Technology Part Number: LT6555; Manufacturer: Linear Technology; PartNumber: LT6555CGN#TR; Channels (#): 3; GBW (MHz) Typical: 650; Is (mA) Typical: 9; SR (V/us) Typical: 2200; Vos (mV) Typical: 5; Vs Max (V): 12.6; Vs Min (V): 4.5; PackageVersion: Rev B; PackageReference: LT-GN-24; PackageDescription: 24-Lead Plastic SSOP , Body 8.5 x 3.9 mm, Pitch 0.635 mm; Packing: Reel; Type: VIDEO; Mounting Technology: Surface Mount; ComponentLink1Description: Manufacturer URL; ComponentLink1URL: http://www.linear.com/; ComponentLink2Description: Datasheet; ComponentLink2URL: http://cds.linear.com/docs/en/datasheet/6555f.pdf; ComponentLink3Description: Package Specification; ComponentLink3URL: http://cds.linear.com/docs/en/packaging/05081641_B_GN24.pdf
footprint LT-GN-24_N (SOP, 24-Leads, Body 8.65x3.90mm, Pitch 0.635mm, , IPC Medium Density)
footprint LT-GN-24_L (SOP, 24-Leads, Body 8.65x3.90mm, Pitch 0.635mm, IPC High Density)
footprint LT-GN-24_M (SOP, 24-Leads, Body 8.65x3.90mm, Pitch 0.635mm, IPC Low Density)
part A pins: 1 IN1A (in) "Channel 1 Input A. This pin has a nominal impedance of 400k ohm and does not have any internal termination resistor.", 3 IN2A (in) "Channel 2 Input A. This pin has a nominal impedance of 400k ohm and does not have any internal termination resistor.", 4 VREF (in) "Voltage Reference for Input Clamping. This is the tap to an internal voltage divider that defines midsupply. It is normally connected to ground in dual supply, DC coupled applications.", 5 IN3A (in) "Channel 3 Input A. This pin has a nominal impedance of 400k ohm and does not have any internal termination resistor.", 7 IN1B (in) "Channel 1 Input B. This pin has a nominal impedance of 400k ohm and does not have any internal termination resistor.", 9 IN2B (in) "Channel 2 Input B. This pin has a nominal impedance of 400k ohm and does not have any internal termination resistor.", 11 IN3B (in) "Channel 3 Input B. This pin has a nominal impedance of 400k ohm and does not have any internal termination resistor.", 16 OUT3 (hiz) "Channel 3 Output. It is twice the selected channel 3 input and performs optimally with a 150ohm load (a double terminated 75ohm cable).", 18 OUT2 (hiz) "Channel 2 Output. It is twice the selected channel 2 input and performs optimally with a 150ohm load (a double terminated 75ohm cable).", 20 OUT1 (hiz) "Channel 1 Output. It is twice the selected channel 1 input and performs optimally with a 150ohm load (a double terminated 75ohm cable).", 22 SEL ~{A}/B (in) "Select Pin. This high impedance pin selects which set of inputs are sent to the output pins. When the pin is pulled low, the A inputs are selected. When the pin is pulled high, the B inputs are selected.", 23 ~{EN} (in) "Enable Control Pin. An internal pull-up resistor of 46k defines the pin’s impedance and will turn the part off if the pin is unconnected. When the pin is pulled low, the amplifiers are enabled."
part B pins: 2 DGND (power) "Digital Ground Reference for Enable Pin. This pin is normally connected to ground.", 6 AGND1 (power) "Analog Ground for the 360ohm Gain Resistor of Channel 1.", 8 AGND2 (power) "Analog Ground for the 360ohm Gain Resistor of Channel 2.", 10 AGND3 (power) "Analog Ground for the 360ohm Gain Resistor of Channel 3.", 12 V- (power) "Negative Supply Voltage. V- pins are not internally connected to each other and must all be connected externally. Proper supply bypassing is necessary for best performance. See the Applications Information section.", 13 V+ (power) "Positive Supply Voltage. V+ pins are not internally connected to each other and must all be connected externally. Proper supply bypassing is necessary for best performance. See the Applications Information section.", 14 V+ (power) "Positive Supply Voltage. V+ pins are not internally connected to each other and must all be connected externally. Proper supply bypassing is necessary for best performance. See the Applications Information section.", 15 V- (power) "Negative Supply Voltage for Channel 3 Output Stage. V- pins are not internally connected to each other and must all be connected externally. Proper supply bypassing is necessary for best performance. See the Applications (See Datasheet)", 17 V+ (power) "Positive Supply Voltage for Channels 2 and 3 Output Stages. V+ pins are not internally connected to each other and must all be connected externally. Proper supply bypassing is necessary for best performance. See the (See Datasheet)", 19 V- (power) "Negative Supply Voltage for Channels 1 and 2 Output Stages. V- pins are not internally connected to each other and must all be connected externally. Proper supply bypassing is necessary for best performance. See the (See Datasheet)", 21 V+ (power) "Positive Supply Voltage for Channel 1 Output Stage. V+ pins are not internally connected to each other and must all be connected externally. Proper supply bypassing is necessary for best performance. See the Applications (See Datasheet)", 24 V+ (power) "Positive Supply Voltage. V+ pins are not internally connected to each other and must all be connected externally. Proper supply bypassing is necessary for best performance. See the Applications Information section."

## LT6555CGN#TRPBF
designator U?
3 Channel, 2:1 Video Multiplexer, Av = 2, 650 MHz Typical GBW, 2200 V/us Typical SR, 4.5 to 12.6 V, 24-Pin SOP (GN24), Commercial, Pb-Free, Reel; Linear Technology Part Number: LT6555; Manufacturer: Linear Technology; PartNumber: LT6555CGN#TRPBF; Channels (#): 3; GBW (MHz) Typical: 650; Is (mA) Typical: 9; SR (V/us) Typical: 2200; Vos (mV) Typical: 5; Vs Max (V): 12.6; Vs Min (V): 4.5; PackageVersion: Rev B; PackageReference: LT-GN-24; PackageDescription: 24-Lead Plastic SSOP , Body 8.5 x 3.9 mm, Pitch 0.635 mm; Supplier 1: Digi-Key; Supplier Part Number 1: LT6555CGN#TRPBF-ND; Packing: Reel; RoHS: Pb-Free; Type: VIDEO; Mounting Technology: Surface Mount; ComponentLink1Description: Manufacturer URL; ComponentLink1URL: http://www.linear.com/; ComponentLink2Description: Datasheet; ComponentLink2URL: http://cds.linear.com/docs/en/datasheet/6555f.pdf; ComponentLink3Description: Package Specification; ComponentLink3URL: http://cds.linear.com/docs/en/packaging/05081641_B_GN24.pdf
footprint LT-GN-24_N (SOP, 24-Leads, Body 8.65x3.90mm, Pitch 0.635mm, , IPC Medium Density)
footprint LT-GN-24_L (SOP, 24-Leads, Body 8.65x3.90mm, Pitch 0.635mm, IPC High Density)
footprint LT-GN-24_M (SOP, 24-Leads, Body 8.65x3.90mm, Pitch 0.635mm, IPC Low Density)
part A pins: 1 IN1A (in) "Channel 1 Input A. This pin has a nominal impedance of 400k ohm and does not have any internal termination resistor.", 3 IN2A (in) "Channel 2 Input A. This pin has a nominal impedance of 400k ohm and does not have any internal termination resistor.", 4 VREF (in) "Voltage Reference for Input Clamping. This is the tap to an internal voltage divider that defines midsupply. It is normally connected to ground in dual supply, DC coupled applications.", 5 IN3A (in) "Channel 3 Input A. This pin has a nominal impedance of 400k ohm and does not have any internal termination resistor.", 7 IN1B (in) "Channel 1 Input B. This pin has a nominal impedance of 400k ohm and does not have any internal termination resistor.", 9 IN2B (in) "Channel 2 Input B. This pin has a nominal impedance of 400k ohm and does not have any internal termination resistor.", 11 IN3B (in) "Channel 3 Input B. This pin has a nominal impedance of 400k ohm and does not have any internal termination resistor.", 16 OUT3 (hiz) "Channel 3 Output. It is twice the selected channel 3 input and performs optimally with a 150ohm load (a double terminated 75ohm cable).", 18 OUT2 (hiz) "Channel 2 Output. It is twice the selected channel 2 input and performs optimally with a 150ohm load (a double terminated 75ohm cable).", 20 OUT1 (hiz) "Channel 1 Output. It is twice the selected channel 1 input and performs optimally with a 150ohm load (a double terminated 75ohm cable).", 22 SEL ~{A}/B (in) "Select Pin. This high impedance pin selects which set of inputs are sent to the output pins. When the pin is pulled low, the A inputs are selected. When the pin is pulled high, the B inputs are selected.", 23 ~{EN} (in) "Enable Control Pin. An internal pull-up resistor of 46k defines the pin’s impedance and will turn the part off if the pin is unconnected. When the pin is pulled low, the amplifiers are enabled."
part B pins: 2 DGND (power) "Digital Ground Reference for Enable Pin. This pin is normally connected to ground.", 6 AGND1 (power) "Analog Ground for the 360ohm Gain Resistor of Channel 1.", 8 AGND2 (power) "Analog Ground for the 360ohm Gain Resistor of Channel 2.", 10 AGND3 (power) "Analog Ground for the 360ohm Gain Resistor of Channel 3.", 12 V- (power) "Negative Supply Voltage. V- pins are not internally connected to each other and must all be connected externally. Proper supply bypassing is necessary for best performance. See the Applications Information section.", 13 V+ (power) "Positive Supply Voltage. V+ pins are not internally connected to each other and must all be connected externally. Proper supply bypassing is necessary for best performance. See the Applications Information section.", 14 V+ (power) "Positive Supply Voltage. V+ pins are not internally connected to each other and must all be connected externally. Proper supply bypassing is necessary for best performance. See the Applications Information section.", 15 V- (power) "Negative Supply Voltage for Channel 3 Output Stage. V- pins are not internally connected to each other and must all be connected externally. Proper supply bypassing is necessary for best performance. See the Applications (See Datasheet)", 17 V+ (power) "Positive Supply Voltage for Channels 2 and 3 Output Stages. V+ pins are not internally connected to each other and must all be connected externally. Proper supply bypassing is necessary for best performance. See the (See Datasheet)", 19 V- (power) "Negative Supply Voltage for Channels 1 and 2 Output Stages. V- pins are not internally connected to each other and must all be connected externally. Proper supply bypassing is necessary for best performance. See the (See Datasheet)", 21 V+ (power) "Positive Supply Voltage for Channel 1 Output Stage. V+ pins are not internally connected to each other and must all be connected externally. Proper supply bypassing is necessary for best performance. See the Applications (See Datasheet)", 24 V+ (power) "Positive Supply Voltage. V+ pins are not internally connected to each other and must all be connected externally. Proper supply bypassing is necessary for best performance. See the Applications Information section."

## LT6555CUF
designator U?
3 Channel, 2:1 Video Multiplexer, Av = 2, 650 MHz Typical GBW, 2200 V/us Typical SR, 4.5 to 12.6 V, 24-Pin QFN (UF24), Commercial; Linear Technology Part Number: LT6555; Manufacturer: Linear Technology; PartNumber: LT6555CUF; Channels (#): 3; GBW (MHz) Typical: 650; Is (mA) Typical: 9; SR (V/us) Typical: 2200; Vos (mV) Typical: 5; Vs Max (V): 12.6; Vs Min (V): 4.5; PackageVersion: Rev B; PackageReference: LT-UF-24; PackageDescription: 24-Lead Plastic QFN, Body 4 x 4 mm, Pitch 0.5 mm; Type: VIDEO; Mounting Technology: Surface Mount; Code_JEDEC: MO-220; ComponentLink1Description: Manufacturer URL; ComponentLink1URL: http://www.linear.com/; ComponentLink2Description: Datasheet; ComponentLink2URL: http://cds.linear.com/docs/en/datasheet/6555f.pdf; ComponentLink3Description: Package Specification; ComponentLink3URL: http://cds.linear.com/docs/en/packaging/%28UF24%29%20QFN%2005-08-1697%20Rev%20B.pdf
footprint LT-UF-24_N (QFN, 24-Leads, Body 4x4mm, Pitch 0.5mm, Thermal Pad 2.45x2.45mm, IPC Medium Density)
footprint LT-UF-24_L (QFN, 24-Leads, Body 4x4mm, Pitch 0.5mm, Thermal Pad 2.45x2.45mm, IPC High Density)
footprint LT-UF-24_M (QFN, 24-Leads, Body 4x4mm, Pitch 0.5mm, Thermal Pad 2.45x2.45mm, IPC Low Density)
pins: 1 VREF (in), 2 IN3A (in), 3 AGND1 (power), 4 V- (power), 5 IN1B (in), 6 AGND2 (power), 7 IN2B (in), 8 AGND3 (power), 9 IN3B (in), 10 V+ (power), 11 V+ (power), 12 V- (power), 13 OUT3 (hiz), 14 V+ (power), 15 OUT2 (hiz), 16 V- (power), 17 OUT1 (hiz), 18 V+ (power), 19 SEL ~{A}/B (in), 20 ~{EN} (in), 21 V+ (power), 22 IN1A (in), 23 DGND (power), 24 IN2A (in), 25 EP (power)

## LT6555CUF#PBF
designator U?
3 Channel, 2:1 Video Multiplexer, Av = 2, 650 MHz Typical GBW, 2200 V/us Typical SR, 4.5 to 12.6 V, 24-Pin QFN (UF24), Commercial, Pb-Free; Linear Technology Part Number: LT6555; Manufacturer: Linear Technology; PartNumber: LT6555CUF#PBF; Channels (#): 3; GBW (MHz) Typical: 650; Is (mA) Typical: 9; SR (V/us) Typical: 2200; Vos (mV) Typical: 5; Vs Max (V): 12.6; Vs Min (V): 4.5; PackageVersion: Rev B; PackageReference: LT-UF-24; PackageDescription: 24-Lead Plastic QFN, Body 4 x 4 mm, Pitch 0.5 mm; Supplier 1: Digi-Key; Supplier Part Number 1: LT6555CUF#PBF-ND; RoHS: Pb-Free; Type: VIDEO; Mounting Technology: Surface Mount; Code_JEDEC: MO-220; ComponentLink1Description: Manufacturer URL; ComponentLink1URL: http://www.linear.com/; ComponentLink2Description: Datasheet; ComponentLink2URL: http://cds.linear.com/docs/en/datasheet/6555f.pdf; ComponentLink3Description: Package Specification; ComponentLink3URL: http://cds.linear.com/docs/en/packaging/%28UF24%29%20QFN%2005-08-1697%20Rev%20B.pdf
footprint LT-UF-24_N (QFN, 24-Leads, Body 4x4mm, Pitch 0.5mm, Thermal Pad 2.45x2.45mm, IPC Medium Density)
footprint LT-UF-24_L (QFN, 24-Leads, Body 4x4mm, Pitch 0.5mm, Thermal Pad 2.45x2.45mm, IPC High Density)
footprint LT-UF-24_M (QFN, 24-Leads, Body 4x4mm, Pitch 0.5mm, Thermal Pad 2.45x2.45mm, IPC Low Density)
pins: 1 VREF (in), 2 IN3A (in), 3 AGND1 (power), 4 V- (power), 5 IN1B (in), 6 AGND2 (power), 7 IN2B (in), 8 AGND3 (power), 9 IN3B (in), 10 V+ (power), 11 V+ (power), 12 V- (power), 13 OUT3 (hiz), 14 V+ (power), 15 OUT2 (hiz), 16 V- (power), 17 OUT1 (hiz), 18 V+ (power), 19 SEL ~{A}/B (in), 20 ~{EN} (in), 21 V+ (power), 22 IN1A (in), 23 DGND (power), 24 IN2A (in), 25 EP (power)

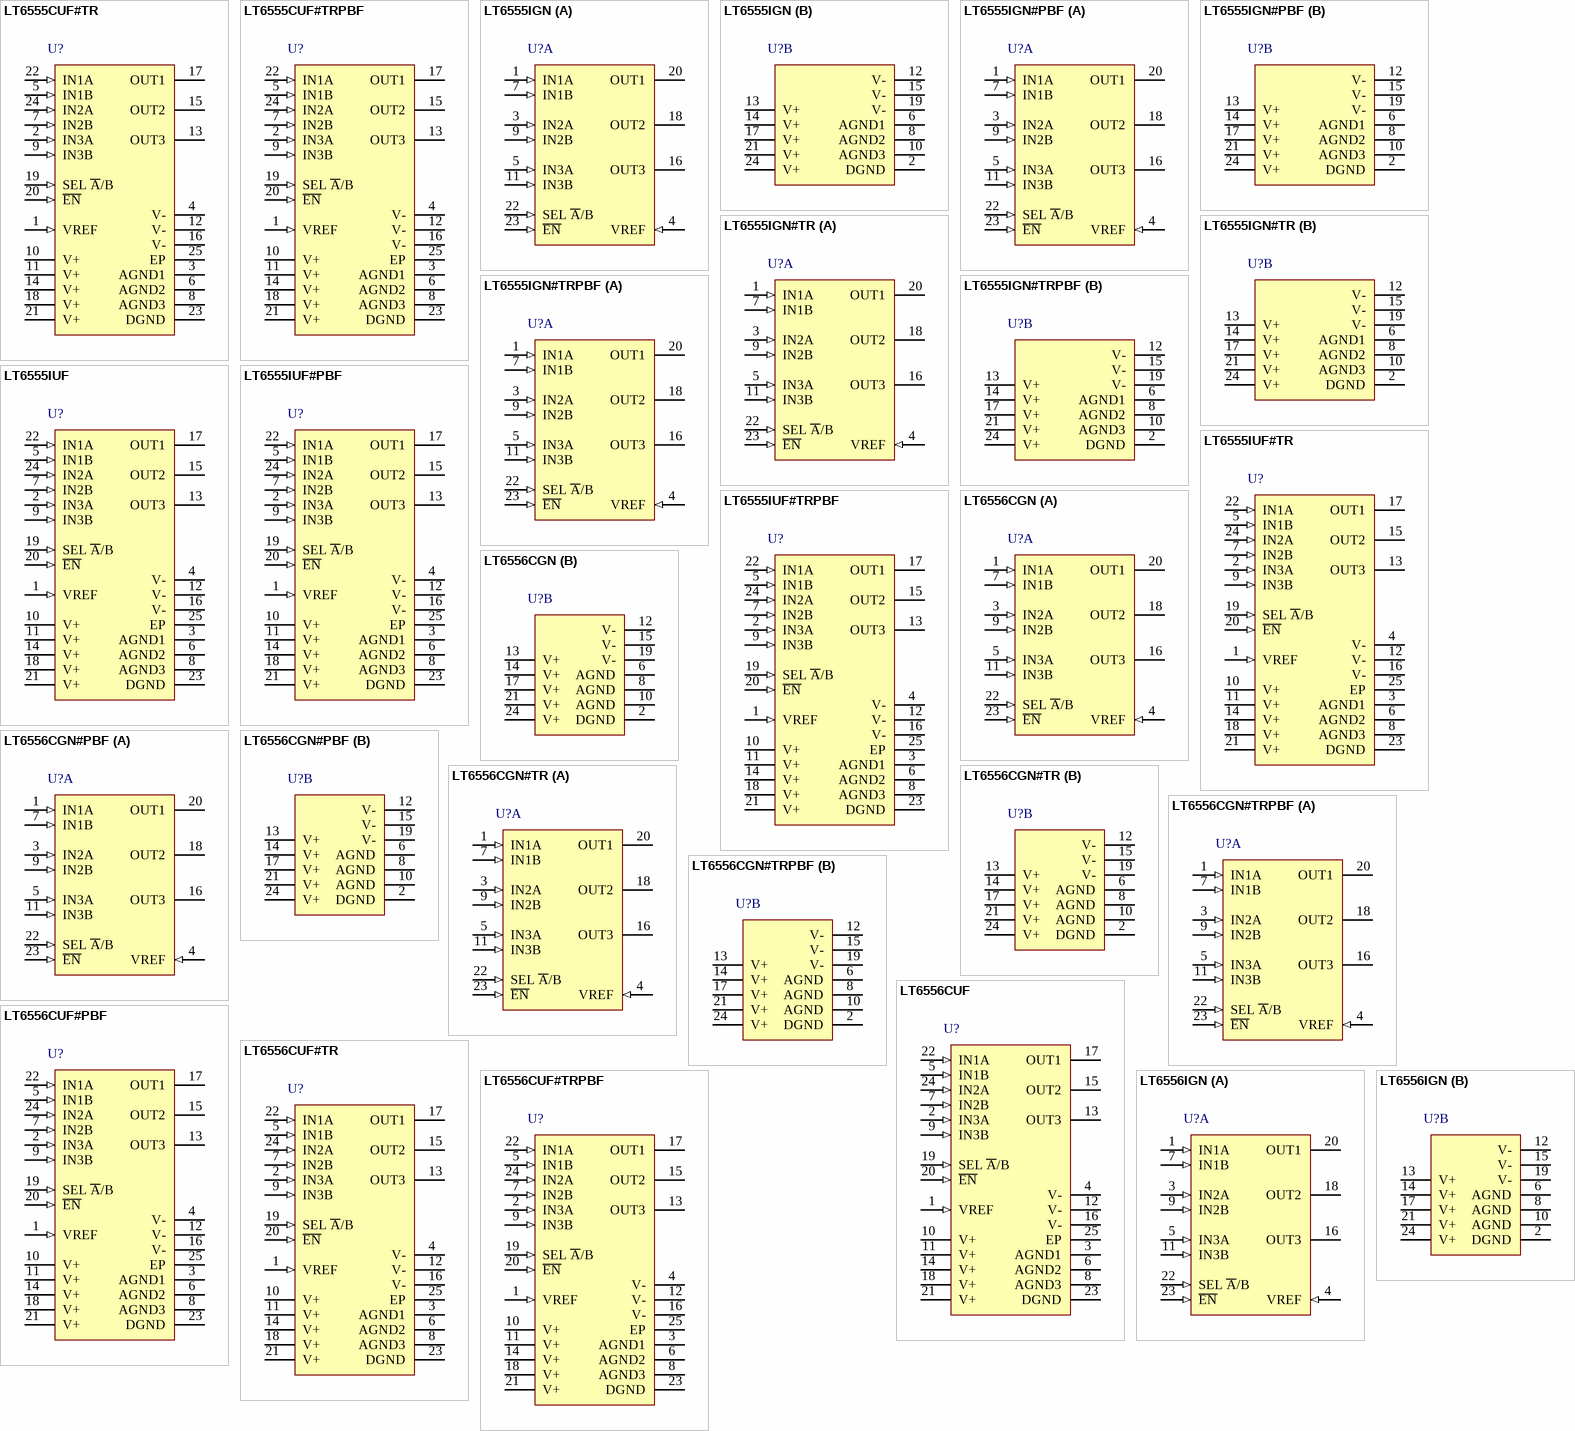
[diagram p33: symbols LT6555CUF#TR to LT6556IGN]

## LT6555CUF#TR
designator U?
3 Channel, 2:1 Video Multiplexer, Av = 2, 650 MHz Typical GBW, 2200 V/us Typical SR, 4.5 to 12.6 V, 24-Pin QFN (UF24), Commercial, Reel; Linear Technology Part Number: LT6555; Manufacturer: Linear Technology; PartNumber: LT6555CUF#TR; Channels (#): 3; GBW (MHz) Typical: 650; Is (mA) Typical: 9; SR (V/us) Typical: 2200; Vos (mV) Typical: 5; Vs Max (V): 12.6; Vs Min (V): 4.5; PackageVersion: Rev B; PackageReference: LT-UF-24; PackageDescription: 24-Lead Plastic QFN, Body 4 x 4 mm, Pitch 0.5 mm; Packing: Reel; Type: VIDEO; Mounting Technology: Surface Mount; Code_JEDEC: MO-220; ComponentLink1Description: Manufacturer URL; ComponentLink1URL: http://www.linear.com/; ComponentLink2Description: Datasheet; ComponentLink2URL: http://cds.linear.com/docs/en/datasheet/6555f.pdf; ComponentLink3Description: Package Specification; ComponentLink3URL: http://cds.linear.com/docs/en/packaging/%28UF24%29%20QFN%2005-08-1697%20Rev%20B.pdf
footprint LT-UF-24_N (QFN, 24-Leads, Body 4x4mm, Pitch 0.5mm, Thermal Pad 2.45x2.45mm, IPC Medium Density)
footprint LT-UF-24_L (QFN, 24-Leads, Body 4x4mm, Pitch 0.5mm, Thermal Pad 2.45x2.45mm, IPC High Density)
footprint LT-UF-24_M (QFN, 24-Leads, Body 4x4mm, Pitch 0.5mm, Thermal Pad 2.45x2.45mm, IPC Low Density)
pins: 1 VREF (in), 2 IN3A (in), 3 AGND1 (power), 4 V- (power), 5 IN1B (in), 6 AGND2 (power), 7 IN2B (in), 8 AGND3 (power), 9 IN3B (in), 10 V+ (power), 11 V+ (power), 12 V- (power), 13 OUT3 (hiz), 14 V+ (power), 15 OUT2 (hiz), 16 V- (power), 17 OUT1 (hiz), 18 V+ (power), 19 SEL ~{A}/B (in), 20 ~{EN} (in), 21 V+ (power), 22 IN1A (in), 23 DGND (power), 24 IN2A (in), 25 EP (power)